# EAGLE library part ADUM6000 (library misc)
Isolated Module DC DC Converter 1 Output 3.3V, 5V 80mA 3V - 5.5V Input
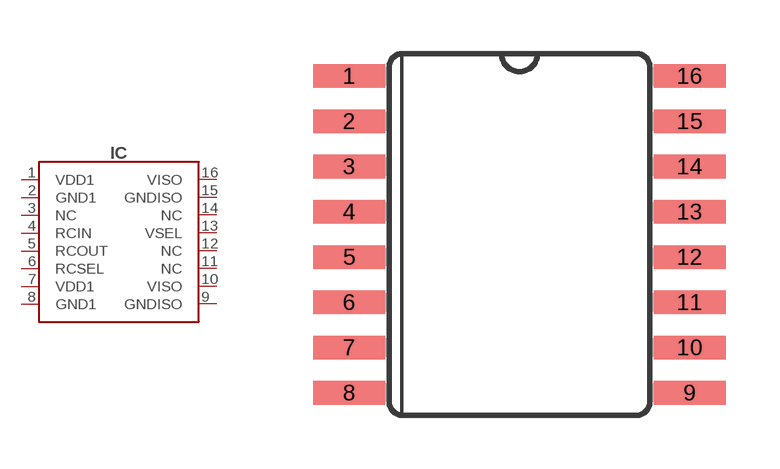
[diagram p43: symbol with the pads of SO16W; footprint SO16W]

Designator prefix IC

## ADUM6000 (DIGIKEY#: ADUM6000ARWZ-RLCT-ND; MANF: Analog Devices Inc; MANF#: ADUM6000ARWZ-RL)  [SO16W]
1  VDD1
2  GND1
3  NC
4  RCIN
5  RCOUT
6  RCSEL
7  VDD1
8  GND1
9  GNDISO
10  VISO
11  NC
12  NC
13  VSEL
14  NC
15  GNDISO
16  VISO

## Footprint SO16W (pad centres in mm)
Small Outline Package
smd 2.032 x 0.66: 1 -4.773,4.445; 2 -4.773,3.175; 3 -4.773,1.905; 4 -4.773,0.635; 5 -4.773,-0.635; 6 -4.773,-1.905; 7 -4.773,-3.175; 8 -4.773,-4.445; 9 4.773,-4.445; 10 4.773,-3.175; 11 4.773,-1.905; 12 4.773,-0.635; 13 4.773,0.635; 14 4.773,1.905; 15 4.773,3.175; 16 4.773,4.445